# EAGLE library part 1554ТВ15 (library std-logic-1554series)
АЕЯР.431200.182-06 ТУ 1554ТВ15 - Два J-K триггера с управлением положительным фронтом по тактовому входу. Изготовитель: ОАО "ИНТЕГРАЛ", г. Минск, р. Беларусь. Технические условия (ТБМ): АЕЯР.431200.182-06 ТУ Технические условия (не ТБМ): АЕЯР.431200.093-02 ТУ
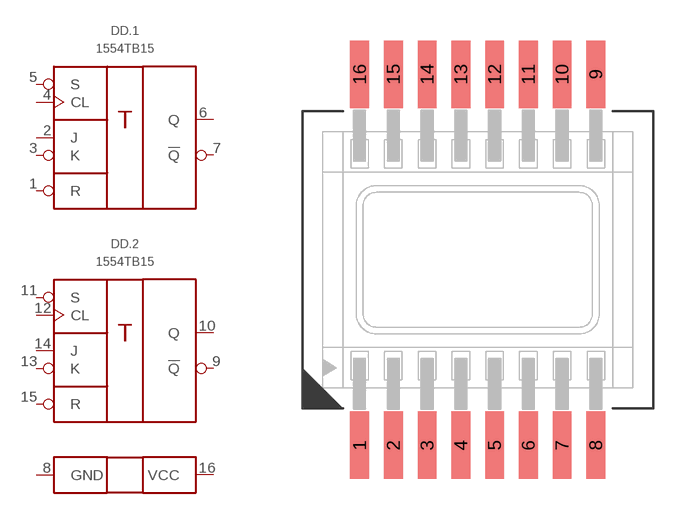
[diagram p28: symbol with the pads of 402.16-32; footprint 402.16-32]

Designator prefix DD; gates .1=1554ТВ15 .2=1554ТВ15 G$1=1554_PWR1

## 1554ТВ15ТБМ  [402.16-32]
1  .1:R  in
2  .1:J  in
3  .1:K  in
4  .1:CL  in
5  .1:S  in
6  .1:Q  in
7  .1:!Q  in
8  G$1:GND  pwr
9  .2:!Q  in
10  .2:Q  in
11  .2:S  in
12  .2:CL  in
13  .2:K  in
14  .2:J  in
15  .2:R  in
16  G$1:VCC  pwr

## Footprint 402.16-32 (pad centres in mm)
smd 0.7 x 2.5: 1 -4.375,-6.875; 2 -3.125,-6.875; 3 -1.875,-6.875; 4 -0.625,-6.875; 5 0.625,-6.875; 6 1.875,-6.875; 7 3.125,-6.875; 8 4.375,-6.875; 9 4.375,6.875; 10 3.125,6.875; 11 1.875,6.875; 12 0.625,6.875; 13 -0.625,6.875; 14 -1.875,6.875; 15 -3.125,6.875; 16 -4.375,6.875